# EAGLE library part FAN7382 (library MCE_CircuitosIntegrados)
FAN7382 High- and Low-Side Gate Driver
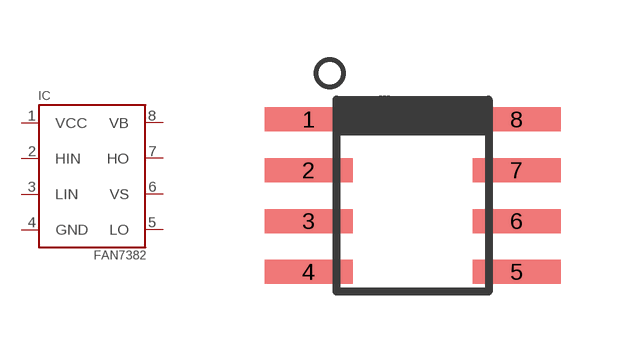
[diagram p14: symbol with the pads of SOIC8; footprint SOIC8]

Designator prefix IC

## FAN7382  [SOIC8]
1  VCC  pwr
2  HIN  in
3  LIN  in
4  GND  pwr
5  LO
6  VS
7  HO
8  VB

## Footprint SOIC8 (pad centres in mm)
Small Outline Narrow Plastic Gull Wing 150-mil body, package type SN
smd 2.2 x 0.6: 1 -2.6,1.905; 2 -2.6,0.635; 3 -2.6,-0.635; 4 -2.6,-1.905; 5 2.6,-1.905; 6 2.6,-0.635; 7 2.6,0.635; 8 2.6,1.905